# Altium footprint library MEM20900014500A.PcbLib: 1 footprints
Each footprint in its own frame and in the unit in brackets; x right, y up, seen from the top. Pads: shape width x height; smd on the part's side, far side on the other; paste and mask are expansions set on the pad; w line width, h text height; cw(c..) or ccw(c..) is an arc to the next point about the centre after c.
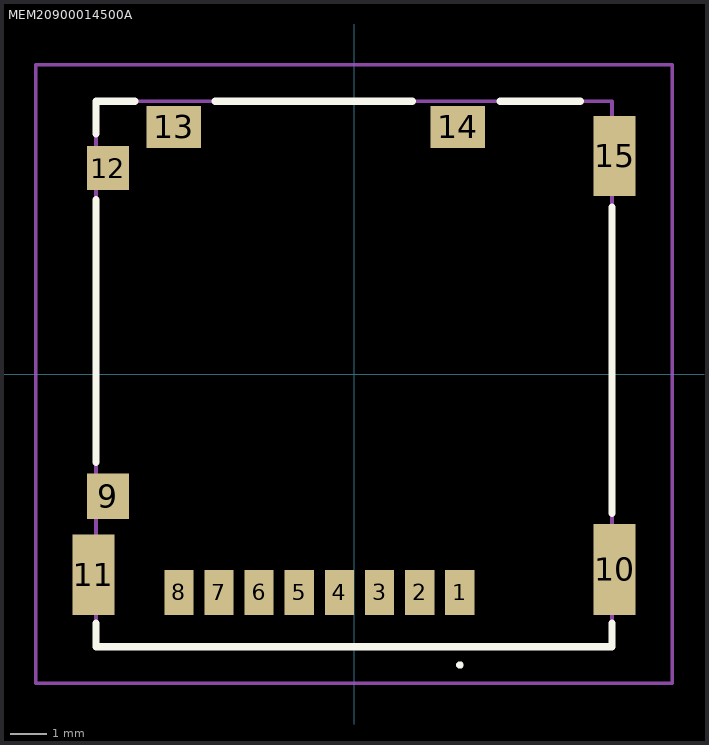
[diagram p0: the footprint, top view; thin cyan lines are the x and y axes]

## MEM20900014500A [mm]
pads (15):
  rect 0.8x1.24 smd: 1(2.9,-5.985) 2(1.8,-5.985) 3(0.7,-5.985) 4(-0.4,-5.985) 5(-1.5,-5.985) 6(-2.6,-5.985) 7(-3.7,-5.985) 8(-4.8,-5.985)
  rect 1.15x1.25 smd: 9(-6.745,-3.355)
  rect 1.15x2.5 smd: 10(7.145,-5.355)
  rect 1.15x2.2 smd: 11(-7.145,-5.505) 15(7.145,5.975)
  rect 1.15x1.2 smd: 12(-6.745,5.645)
  rect 1.5x1.15 smd: 13(-4.94,6.77) 14(2.84,6.77)
Top Overlay:
  lines w0.1: 2.9,-8.025 2.9,-8.025 ; 2.9,-8.025 ccw(c2.9,-7.975) 2.9,-7.925 ; 2.9,-8.025 cw(c2.9,-7.975) 2.9,-7.925 ; 2.9,-7.925 2.9,-7.925
  lines w0.2: -7.07,-6.825 -7.07,-7.475 7.07,-7.475 7.07,-6.825 ; -7.07,-2.425 -7.07,4.775 ; -7.07,6.575 -7.07,7.475 -6,7.475 ; -3.8,7.475 1.6,7.475 ; 4,7.475 6.2,7.475 ; 7.07,-3.825 7.07,4.575
Mechanical 15:
  lines w0.1: -7.07,-7.475 7.07,-7.475 7.07,7.475 -7.07,7.475 -7.07,-7.475
Mechanical 20:
  lines w0.1: -8.72,-8.475 8.72,-8.475 8.72,8.475 -8.72,8.475 -8.72,-8.475